# Altium schematic symbol library CAP,Alum,220uF,50VDC,SMD.Schlib: 1 symbol
Pins are listed as number, name and electrical type; pins without a type are passive.

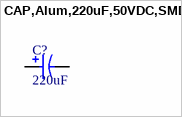
[diagram p0: symbol CAP,Alum,220uF,50VDC,SMD]

## CAP,Alum,220uF,50VDC,SMD
designator C?, comment 220uF
CAP ALUM 220UF 20% 50V SMD
pins: 1, 2